# EAGLE library part PBSS4041 (library MDB_HOME)
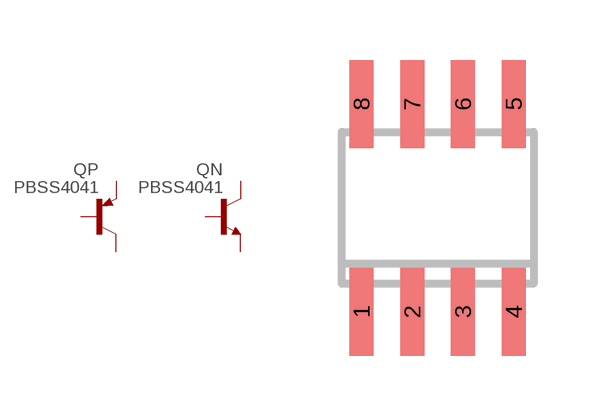
[diagram p33: symbol with the pads of SO8; footprint SO8]

Designator prefix Q; gates P=PNP N=NPN

## PBSS4041  [SO8]
1  N:E  pas
2  N:B  pas
3  P:E  pas
4  P:B  pas
5  P:C  pas
6  P:C  pas
7  N:C  pas
8  N:C  pas

## Footprint SO8 (pad centres in mm)
SMALL OUTLINE INTEGRATED CIRCUIT
smd 0.6 x 2.2: 1 -1.905,-2.6; 2 -0.635,-2.6; 3 0.635,-2.6; 4 1.905,-2.6; 5 1.905,2.6; 6 0.635,2.6; 7 -0.635,2.6; 8 -1.905,2.6